# Altium footprint library power_switch.PcbLib: 4 footprints
Each footprint in its own frame and in the unit in brackets; x right, y up, seen from the top. Pads: shape width x height; smd on the part's side, far side on the other; paste and mask are expansions set on the pad; w line width, h text height; cw(c..) or ccw(c..) is an arc to the next point about the centre after c.
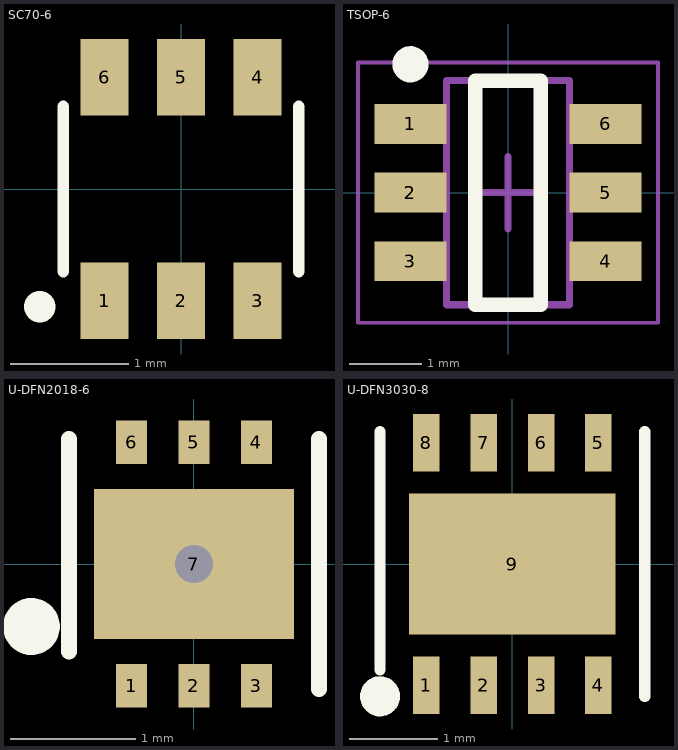
[diagram p0: the footprints below, top view; thin cyan lines are the x and y axes]

## SC70-6 [mm]
pads (6):
  rect 0.406x0.648 smd: 1(-0.65,-0.95) 2(0,-0.95) 3(0.65,-0.95) 4(0.65,0.95) 5(0,0.95) 6(-0.65,0.95)
Top Overlay:
  circle w0.254: c-1.2,-1 r0.005
  lines w0.1: -1,-0.7 -1,0.7 ; 1,-0.7 1,0.7
3D body: height 1.1, standoff 0, extent -1,-0.7 1,0.7

## TSOP-6 [mm] "SOT23, 6-Leads, Body 3.03x2.80mm, Pitch 0.95mm, IPC Medium Density"
height 1.1
pads (6):
  rect 1x0.55 smd: 1(-1.35,0.95) 2(-1.35,0) 3(-1.35,-0.95) 4(1.35,-0.95) 5(1.35,0) 6(1.35,0.95)
Top Overlay:
  circle w0.25: c-1.35,1.775 r0.125
  lines w0.2: -0.45,-1.55 0.45,-1.55 0.45,1.55 -0.45,1.55 -0.45,-1.55
Mechanical 13:
  lines w0.1: -0.85,-1.55 -0.85,1.55 0.85,1.55 0.85,-1.55 -0.85,-1.55
Mechanical 15:
  lines w0.05: -2.075,-1.8 -2.075,1.8 2.075,1.8 2.075,-1.8 -2.075,-1.8
  lines w0.1: -0.5,0 0.5,0 ; 0,-0.5 0,0.5
3D body: height 1.1, standoff 0.01, extent -0.85,-1.55 0.85,1.55

## U-DFN2018-6 [mm]
pads (7):
  rect 0.25x0.35 smd: 1(-0.5,-0.975) 2(0,-0.975) 3(0.5,-0.975) 4(0.5,0.975) 5(0,0.975) 6(-0.5,0.975)
  rect 1.6x1.2 smd: 7(0,0)
via 0,0 diameter 0.61 hole 0.305
Top Overlay:
  circle w0.254: c-1.3,-0.5 r0.1
  lines w0.127: -1,-0.7 -1,1 ; 1,-1 1,1
3D body: height 0.6, standoff 0, extent -1,-1 1,1

## U-DFN3030-8 [mm]
pads (9):
  rect 0.3x0.65 smd: 1(-0.975,-1.375) 2(-0.325,-1.375) 3(0.325,-1.375) 4(0.975,-1.375) 5(0.975,1.375) 6(0.325,1.375) 7(-0.325,1.375) 8(-0.975,1.375)
  rect 2.34x1.6 smd: 9(0,0)
Top Overlay:
  circle w0.254: c-1.5,-1.5 r0.1
  lines w0.127: -1.5,-1.2 -1.5,1.5 ; 1.5,-1.5 1.5,1.5
3D body: height 0.6, standoff 0, extent -1.5,-1.5 1.5,1.5